# Altium schematic symbol library HEF4071B.SchLib: 1 symbol
Pins are listed as number, name and electrical type; pins without a type are passive.

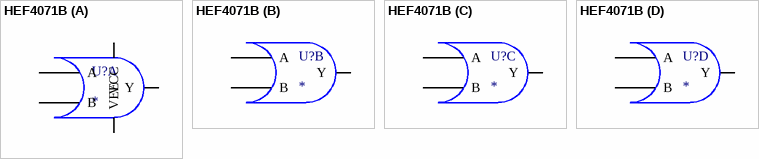
[diagram p0: symbol HEF4071B]

## HEF4071B
designator U?
part A pins: 1 A, 2 B, 3 Y, 7 VEE, 14 VCC
part B pins: 4 Y, 5 A, 6 B
part C pins: 8 A, 9 B, 10 Y
part D pins: 11 Y, 12 A, 13 B